# Altium schematic symbol library RF.SchLib: 2 symbols
Pins are listed as number, name and electrical type; pins without a type are passive.

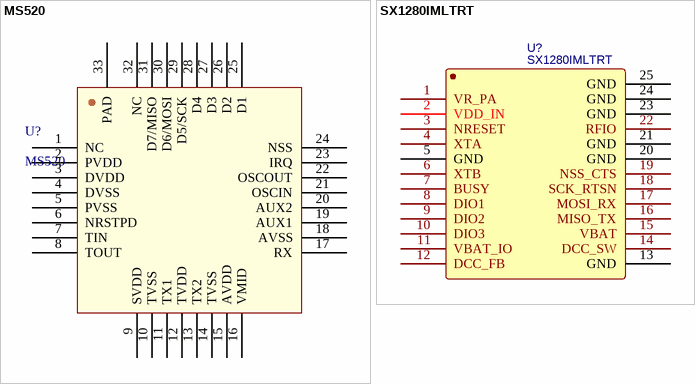
[diagram p0: symbols MS520 to SX1280IMLTRT]

## MS520
designator U?
footprint QFN-32-1EP_5x5MM_P0.5mm_EP3.45x3.45mm_ThermalVias (QFN, 32-Leads, Body 5.00x5.00mm, Pitch 0.50mm, Thermal Pad 3.70x3.70mm, IPC Low Density)
pins: 1 NC, 2 PVDD, 3 DVDD, 4 DVSS, 5 PVSS, 6 NRSTPD, 7 TIN, 8 TOUT, 9 SVDD, 10 TVSS, 11 TX1, 12 TVDD, 13 TX2, 14 TVSS, 15 AVDD, 16 VMID, 17 RX, 18 AVSS, 19 AUX1, 20 AUX2, 21 OSCIN, 22 OSCOUT, 23 IRQ, 24 NSS, 25 D1, 26 D2, 27 D3, 28 D4, 29 D5/SCK, 30 D6/MOSI, 31 D7/MISO, 32 NC, 33 PAD

## SX1280IMLTRT
designator U?
Long Range, Low Power, 2.4 GHz Transceiver with Ranging Capability; BOM_Manufacturer: SEMTECH; Contributor: LCSC; SMT Type: Extend; BOM_Supplier: LCSC; BOM_Supplier Part: C125969; BOM_Manufacturer Part: SX1280IMLTRT; BOM_JLCPCB SMD: Yes; spicePre: U; spiceSymbolName: SX1280IMLTRT
footprint QFN-24-1EP_4x4_P0.5mm_EP2.45x2.45mm (QFN, 24-Leads, Body 4.00x4.00mm, Pitch 0.50mm, Thermal Pad 2.45x2.45mm, IPC Low Density)
pins: 1 VR_PA, 2 VDD_IN, 3 NRESET, 4 XTA, 5 GND, 6 XTB, 7 BUSY, 8 DIO1, 9 DIO2, 10 DIO3, 11 VBAT_IO, 12 DCC_FB, 13 GND, 14 DCC_SW, 15 VBAT, 16 MISO_TX, 17 MOSI_RX, 18 SCK_RTSN, 19 NSS_CTS, 20 GND, 21 GND, 22 RFIO, 23 GND, 24 GND, 25 GND